# EAGLE library part ORION_B16 (library CougsInSpace-Boards)
Orion B16 GPS Module
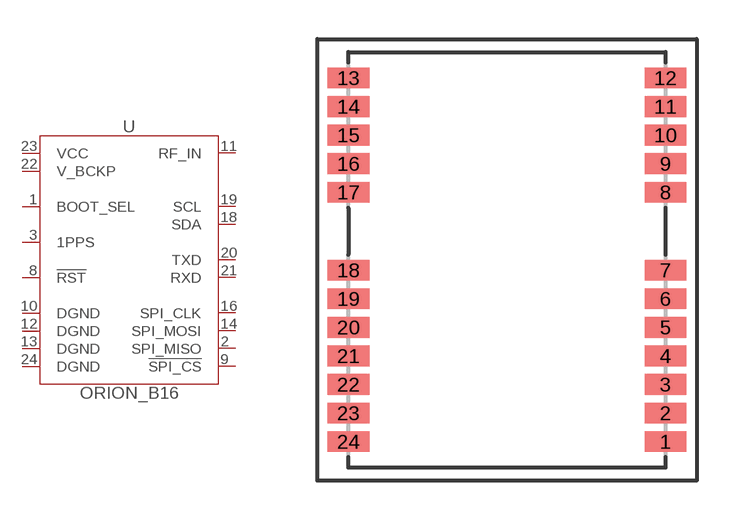
[diagram p3: symbol with the pads of ORION_B16; footprint ORION_B16]

Designator prefix -

## ORION_B16 (SKU: 03-0002; VALUE: Orion B16)  [ORION_B16]
1  BOOT_SEL  in
2  SPI_MISO  out
3  1PPS  out
8  !RST  in
9  !SPI_CS  in
10  DGND  pwr
11  RF_IN  in
12  DGND  pwr
13  DGND  pwr
14  SPI_MOSI  in
16  SPI_CLK  in
18  SDA
19  SCL  in
20  TXD  out
21  RXD  out
22  V_BCKP  pwr
23  VCC  pwr
24  DGND  pwr

## Footprint ORION_B16 (pad centres in mm)
Orion B16 GPS Module
smd 1.6 x 0.8: 1 6.1,-7; 2 6.1,-5.9; 3 6.1,-4.8; 4 6.1,-3.7; 5 6.1,-2.6; 6 6.1,-1.5; 7 6.1,-0.4; 8 6.1,2.6; 9 6.1,3.7; 10 6.1,4.8; 11 6.1,5.9; 12 6.1,7; 13 -6.1,7; 14 -6.1,5.9; 15 -6.1,4.8; 16 -6.1,3.7; 17 -6.1,2.6; 18 -6.1,-0.4; 19 -6.1,-1.5; 20 -6.1,-2.6; 21 -6.1,-3.7; 22 -6.1,-4.8; 23 -6.1,-5.9; 24 -6.1,-7